# Altium schematic symbol library Cap_Panasonic_EEU-FC1V222SB_eec.SchLib: 1 symbol
Pins are listed as number, name and electrical type; pins without a type are passive.

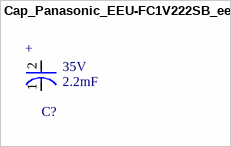
[diagram p0: symbol Cap_Panasonic_EEU-FC1V222SB_eec]

## Cap_Panasonic_EEU-FC1V222SB_eec
designator C?  Capacitance: 2.2mF  Voltage: 35V
CAP ALUM 2200UF 20% 35V RADIAL; Part Number: EEU-FC1V222SB; Manufacturer: Panasonic; Value: 2.2mF; helpURL: https://upverter.com/upn/revision/93918d11832d55de/; ComponentLink2Description: Datasheet; Temperature: -55°C to +105°C; Package: RADIAL; Supplier 2: Mouser; Price: 1.32037632439; Supplier 1: Digi-Key; ComponentLink1URL: https://upverter.com/upn/revision/93918d11832d55de/; Supplier Part Number 2: 667-EEU-FC1V222SB; Supplier Part Number 1: P19680CT-ND; ComponentLink1Description: Upverter; ComponentLink2URL: https://industrial.panasonic.com/cdbs/www-data/pdf/RDF0000/ABA0000C1209.pdf; RoHS: TRUE; Mouser Part Number: 667-EEU-FC1V222SB; Ipc Land Pattern Name: CAPRD750W100D1800H2500; Temperature Range High: +105°C; Digikey Description: CAP ALUM 2200UF 20% 35V RADIAL; Digikey Part Number: P19680CT-ND; Lead Free: yes; Temperature Range Low: -55°C
footprint Panasonic_EEU-FC1V222SB_0
pins: 1 -, 2 +